# Altium footprint library MainPcblib.PcbLib: 316 footprints (part 17 of 20)
Each footprint in its own frame and in the unit in brackets; x right, y up, seen from the top. Pads: shape width x height; smd on the part's side, far side on the other; paste and mask are expansions set on the pad; w line width, h text height; cw(c..) or ccw(c..) is an arc to the next point about the centre after c.
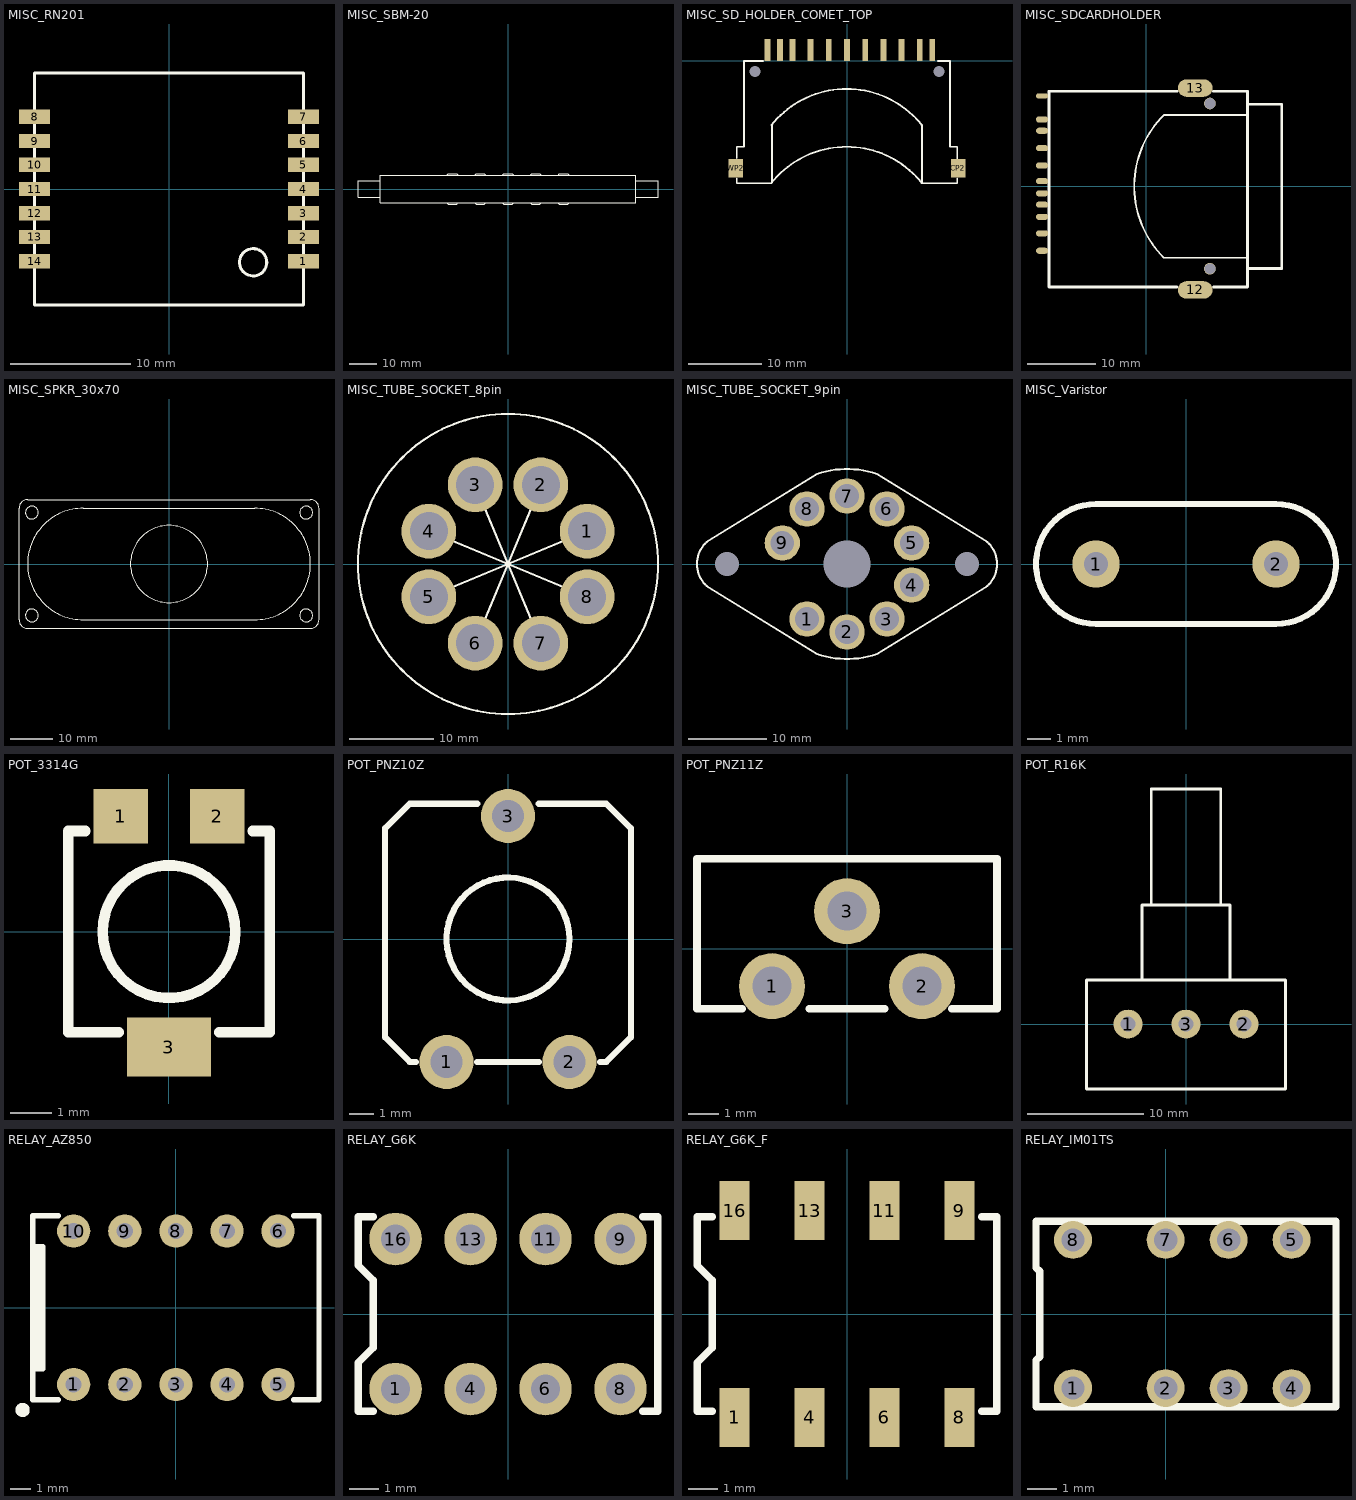
[diagram p16: the footprints below, top view; thin cyan lines are the x and y axes]

## MISC_RN201 [mil]
pads (14):
  rect 102x47 smd: 1(440,-235) 2(440,-156) 3(440,-78) 4(440,1) 5(440,80) 6(440,158) 7(440,237) 8(-440,237) 9(-440,158) 10(-440,80) 11(-440,1) 12(-440,-78) 13(-440,-156) 14(-440,-235)
Top Overlay:
  circle w10: c275.28,-239 r44.72
  lines w10: -440,-379 -440,381 440,381 440,-379 0,-379 -440,-379

## MISC_SBM-20 [mm] "Geiger counter tube"
Top Overlay:
  lines w0.254: -46,-3 -54,-3 -54,0 -54,3 -46,3 ; -22,-5 -21.5,-5.5 ; -18,5 -18.5,5.5 ; -12,-5 -11.5,-5.5 ; -8,5 -8.5,5.5 ; -2,-5 -1.5,-5.5 ; 2,5 1.5,5.5 ; 8,-5 8.5,-5.5 ; 12,5 11.5,5.5 ; 18,-5 18.5,-5.5 ; 22,5 21.5,5.5 ; -22,5 -21.5,5.5 -18.5,5.5 ; -22,5 -22,5 ; -21.5,-5.5 -18.5,-5.5 -18,-5 ; -21.5,-5.5 -21.5,-5.5 ; -18.5,5.5 -18.5,5.5 ; -18,-5 -18,-5 ; -12,5 -12,5 ; -12,5 -11.5,5.5 -8.5,5.5 ; -11.5,-5.5 -11.5,-5.5 ; -11.5,-5.5 -8.5,-5.5 -8,-5 ; -8.5,5.5 -8.5,5.5 ; -8,-5 -8,-5 ; -2,5 -1.5,5.5 1.5,5.5 ; -2,5 -2,5 ; -1.5,-5.5 1.5,-5.5 2,-5 ; -1.5,-5.5 -1.5,-5.5 ; 1.5,5.5 1.5,5.5 ; 2,-5 2,-5 ; 8,5 8,5 ; 8,5 8.5,5.5 11.5,5.5 ; 8.5,-5.5 8.5,-5.5 ; 8.5,-5.5 11.5,-5.5 12,-5 ; 11.5,5.5 11.5,5.5 ; 12,-5 12,-5 ; 18,5 18.5,5.5 21.5,5.5 ; 18,5 18,5 ; 18.5,-5.5 21.5,-5.5 22,-5 ; 18.5,-5.5 18.5,-5.5 ; 21.5,5.5 21.5,5.5 ; 22,-5 22,-5 ; 46,-3 46,3 ; 46,-3 46,-5 -46,-5 -46,5 46,5 46,3 ; 46,-3 54,-3 54,3 46,3

## MISC_SD_HOLDER_COMET_TOP [mm] "SD Card holder - COMET - CSD-03SC"
height 3.429
pads (15):
  rect 0.8x3 smd: CD/CS/DAT3(7.5,1.5) CMD/MOSI(5,1.5) CP1(11.7,1.5) DAT0/MISO(-7.5,1.5) DAT1/RES(-9.2,1.5) DAT2/RES(10,1.5) SCK(-2.5,1.5) Vdd(0,1.5) Vss1(2.5,1.5) Vss2(-5,1.5) WP1(-10.9,1.5)
  rect 2x2.5 smd: CP2(15.25,-14.75) WP2(-15.25,-14.75)
  rect 0x0 hole 1.5: Hole(-12.65,-1.45) Hole(12.65,-1.45)
Top Overlay:
  lines w0.25: -15.15,-16.15 -15.15,-16.8 -10.377,-16.8 ; -15.15,-13.35 -15.15,-11.8 -14.15,-11.8 -14.15,0 -11.55,0 ; -10.377,-16.778 -10.3,-16.701 -10.3,-8.8 ; 10.3,-8.8 10.3,-16.796 10.296,-16.8 15.15,-16.8 15.15,-16.15 ; 12.5,0 14.15,0 14.15,-11.8 15.15,-11.8 15.15,-13.4
  lines w0.254: -10.377,-16.778 cw(c-0.05,-25) 10.296,-16.803 ; -10.377,-8.828 cw(c-0.05,-17.05) 10.296,-8.853

## MISC_SDCARDHOLDER [mil]
pads (15):
  oval 70x35 smd: 1(-600,-370) 2(-600,-270) 3(-600,-175) 4(-600,-105) 5(-600,-40) 6(-600,30) 7(-600,120) 8(-600,220) 9(-600,320) 10(-600,385)
  oval 70x30 smd: 11(-600,520)
  oval 200x100 smd: 12(280,-595) 13(280,565)
  round 66.93 hole 62.99: Hole(364.57,-473.54) Hole(364.57,476.46)
Top Overlay:
  lines w10: 581.1,-410 100,-410 cw(c510,0) 100,410 581.1,410
  lines w15.75: 175,-578.66 -560.63,-578.66 -560.63,547.32 175,547.32 ; 385,-578.66 581.1,-578.66 581.1,547.32 385,547.32 ; 581.1,-472.36 777.95,-472.36 777.95,472.52 581.1,472.52

## MISC_SPKR_30x70 [mm] "Speaker 30mmX70mm"
Top Overlay:
  circle w0.254: c32,-12 r1.5
  circle w0.254: c32,12 r1.5
  circle w0.254: c-32,12 r1.5
  circle w0.254: c-32,-12 r1.5
  circle w0.254: c0,0 r9
  lines w0.254: -35,-13 ccw(c-33,-13) -33,-15 33,-15 ccw(c33,-13) 35,-13 35,13 ccw(c33,13) 33,15 -33,15 ccw(c-33,13) -35,13 -35,-13 ; -20,-13 cw(c-20,0) -20,13 20,13 cw(c20,0) 20,-13 -20,-13

## MISC_TUBE_SOCKET_8pin [mm]
pads (8):
  round 6.5 hole 4.5: 1(9.387,3.888) 2(3.888,9.387) 3(-3.888,9.387) 4(-9.387,3.888) 5(-9.387,-3.888) 6(-3.888,-9.387) 7(3.888,-9.387) 8(9.387,-3.888)
Top Overlay:
  circle w0.254: c0,0 r17.78
  lines w0.254: -9.387,-3.888 0,0 ; -9.387,3.888 0,0 ; -3.888,-9.387 0,0 ; -3.888,9.387 0,0 ; 3.888,-9.387 0,0 ; 3.888,9.387 0,0 ; 9.387,-3.888 0,0 ; 9.387,3.888 0,0

## MISC_TUBE_SOCKET_9pin [mm]
pads (12):
  rect 0x0 hole 6: 0(0,0)
  round 4.5 hole 3: 1(-5.076,-6.987) 2(0,-8.636) 3(5.076,-6.987) 4(8.213,-2.669) 5(8.213,2.669) 6(5.076,6.987) 7(0,8.636) 8(-5.076,6.987) 9(-8.213,2.669)
  round 0 hole 3: 10(-15.24,0) 11(15.24,0)
Top Overlay:
  lines w0.254: -19.05,0 ccw(c-15.24,0) -17.803,-2.819 ; -19.05,0 cw(c-15.24,0) -17.803,2.819 ; -19.05,0 ccw(c-15.24,0) -17.803,-2.819 ; -19.05,0 cw(c-15.24,0) -17.803,2.819 ; -17.803,-2.819 -3.815,-11.446 ; -17.803,2.819 -3.815,11.446 ; -3.815,-11.446 ccw(c0,0) 3.815,-11.446 ; -3.815,-11.446 ccw(c0,0) 3.815,-11.446 ; -3.815,11.446 cw(c0,0) 3.815,11.446 ; -3.815,11.446 cw(c0,0) 3.815,11.446 ; 3.815,-11.446 17.803,-2.819 ; 3.815,11.446 17.803,2.819 ; 17.803,-2.819 ccw(c15.24,0) 19.05,0 ; 17.803,-2.819 ccw(c15.24,0) 19.05,0 ; 17.803,2.819 cw(c15.24,0) 19.05,0 ; 17.803,2.819 cw(c15.24,0) 19.05,0

## MISC_Varistor [mm]
pads (2):
  round 2 hole 1: 1(-3.81,0) 2(3.81,0)
Top Overlay:
  lines w0.254: -3.81,-2.54 cw(c-3.81,0) -3.81,2.54 3.81,2.54 cw(c3.81,0) 3.81,-2.54 -3.81,-2.54

## POT_3314G [mm] "Bourns 3314 SMD trimmer"
height 2.5
pads (3):
  rect 1.3x1.3 smd: 1(-1.15,2.75) 2(1.15,2.75)
  rect 2x1.4 smd: 3(0,-2.75)
Top Overlay:
  circle w0.254: c0,0 r1.581
  lines w0.254: -2,2.4 -2.4,2.4 -2.4,-2.4 -1.2,-2.4 ; 1.2,-2.4 2.4,-2.4 2.4,2.4 2,2.4

## POT_PNZ10Z [mm] "Trimmer POT"
height 7
pads (3):
  round 2.2 hole 1.3: 1(-2.5,-5) 2(2.5,-5) 3(0,5)
Top Overlay:
  circle w0.254: c0,0 r2.5
  lines w0.254: -3.75,-5 -4,-5 -5,-4 -5,4.5 -4,5.5 -1.25,5.5 ; -1.25,-5 1.25,-5 ; 1.25,5.5 4,5.5 5,4.5 5,-4 4,-5 3.75,-5

## POT_PNZ11Z [mm]
height 12
pads (3):
  round 2.2 hole 1.3: 1(-2.5,-1.25) 2(2.5,-1.25) 3(0,1.25)
Top Overlay:
  lines w0.254: -3.5,-2 -5,-2 -5,3 5,3 5,-2 3.5,-2 ; -1.25,-2 1.25,-2

## POT_R16K [mm] "Pot R16K"
pads (3):
  round 2.5 hole 1.3: 1(-5,0) 2(5,0) 3(0,0)
Top Overlay:
  lines w0.254: -3.8,3.8 -3.8,10.3 3.8,10.3 3.8,3.8 ; -3,10.3 -3,20.3 3,20.3 3,10.3 ; -8.6,-5.6 -8.6,3.8 8.6,3.8 8.6,-5.6 -8.6,-5.6

## RELAY_AZ850 [mil] "AZ850 (and others) relay"
height 196.85
pads (10):
  round 65 hole 31.5: 1(-200,-150) 2(-100,-150) 3(0,-150) 4(100,-150) 5(200,-150) 6(200,150) 7(100,150) 8(0,150) 9(-100,150) 10(-200,150)
Top Overlay:
  circle w14: c-300,-200 r7
  lines w10: -280,-120 -260,-120 ; -280,120 -260,120 ; -230,-180 -280,-180 -280,180 -230,180 ; 230,-180 280,-180 280,180 230,180 ; -260,-120 -260,120 ; -260,-120 -270,-120 -270,120 -260,120

## RELAY_G6K [mil] "Omron G6K-2P"
height 196.85
pads (8):
  round 70 hole 39: 1(-150,-100) 4(-50,-100) 6(50,-100) 8(150,-100) 9(150,100) 11(50,100) 13(-50,100) 16(-150,100)
Top Overlay:
  lines w10: -180,-130 -200,-130 -200,-65 -180,-45 -180,45 -200,65 -200,130 -180,130 ; 180,-130 200,-130 200,130 180,130

## RELAY_G6K_F [mm] "Omron G6K-2F"
height 5
pads (8):
  rect 1x2 smd: 1(-3.81,-3.5) 4(-1.27,-3.5) 6(1.27,-3.5) 8(3.81,-3.5) 9(3.81,3.5) 11(1.27,3.5) 13(-1.27,3.5) 16(-3.81,3.5)
Top Overlay:
  lines w0.254: -4.572,-3.302 -5.08,-3.302 -5.08,-1.651 -4.572,-1.143 -4.572,1.143 -5.08,1.651 -5.08,3.302 -4.572,3.302 ; 4.572,-3.302 5.08,-3.302 5.08,3.302 4.572,3.302

## RELAY_IM01TS [mm] "Relay IM01TS"
height 5.7
pads (8):
  round 1.3 hole 0.8: 1(-3.175,-2.54) 2(0,-2.54) 3(2.159,-2.54) 4(4.318,-2.54) 5(4.318,2.54) 6(2.159,2.54) 7(0,2.54) 8(-3.175,2.54)
Top Overlay:
  lines w0.254: -4.445,-3.175 5.842,-3.175 5.842,3.175 -4.445,3.175 -4.445,1.587 -4.318,1.46 -4.318,-1.46 -4.445,-1.587 -4.445,-3.175